# Altium footprint library SMD Active.PcbLib: 72 footprints (part 2 of 8)
Each footprint in its own frame and in the unit in brackets; x right, y up, seen from the top. Pads: shape width x height; smd on the part's side, far side on the other; paste and mask are expansions set on the pad; w line width, h text height; cw(c..) or ccw(c..) is an arc to the next point about the centre after c.
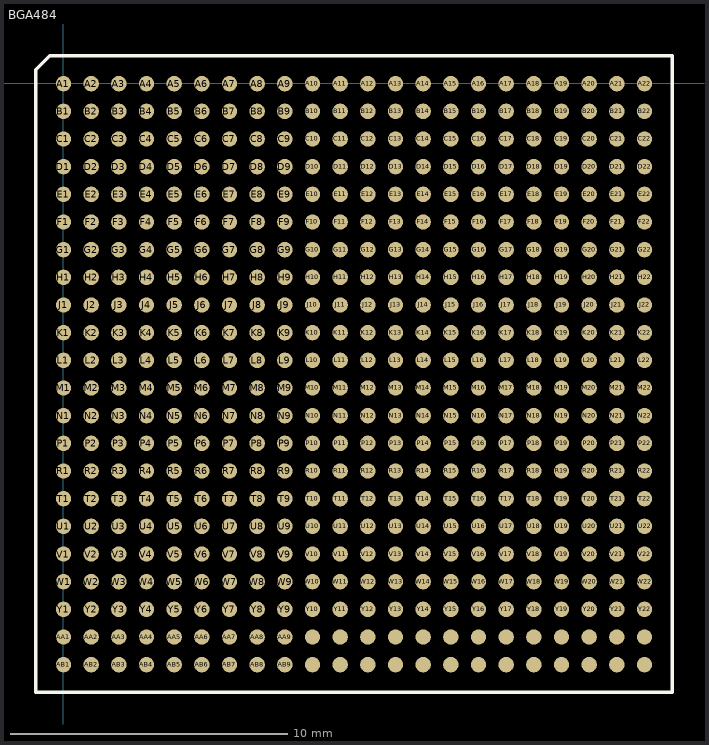
[diagram p1: the footprint, top view; thin cyan lines are the x and y axes]

## BGA484 [mil]
pads (484):
  round 22 smd: A1(0,-0.23) A2(39.37,-0.23) A3(78.74,-0.23) A4(118.11,-0.23) A5(157.48,-0.23) A6(196.85,-0.23) A7(236.22,-0.23) A8(275.59,-0.23) A9(314.96,-0.23) A10(354.33,-0.23) A11(393.7,-0.23) A12(433.07,-0.23) A13(472.44,-0.23) A14(511.81,-0.23) A15(551.18,-0.23) A16(590.55,-0.23) A17(629.92,-0.23) A18(669.29,-0.23) A19(708.66,-0.23) A20(748.03,-0.23) A21(787.4,-0.23) A22(826.77,-0.23) AA1(0,-787.63) AA2(39.37,-787.63) AA3(78.74,-787.63) AA4(118.11,-787.63) AA5(157.48,-787.63) AA6(196.85,-787.63) AA7(236.22,-787.63) AA8(275.59,-787.63) AA9(314.96,-787.63) AA10(354.33,-787.63) AA11(393.7,-787.63) AA12(433.07,-787.63) AA13(472.44,-787.63) AA14(511.81,-787.63) AA15(551.18,-787.63) AA16(590.55,-787.63) AA17(629.92,-787.63) AA18(669.29,-787.63) AA19(708.66,-787.63) AA20(748.03,-787.63) AA21(787.4,-787.63) AA22(826.77,-787.63) AB1(0,-827) AB2(39.37,-827) AB3(78.74,-827) AB4(118.11,-827) AB5(157.48,-827) AB6(196.85,-827) AB7(236.22,-827) AB8(275.59,-827) AB9(314.96,-827) AB10(354.33,-827) AB11(393.7,-827) AB12(433.07,-827) AB13(472.44,-827) AB14(511.81,-827) AB15(551.18,-827) AB16(590.55,-827) AB17(629.92,-827) AB18(669.29,-827) AB19(708.66,-827) AB20(748.03,-827) AB21(787.4,-827) AB22(826.77,-827) B1(0,-39.6) B2(39.37,-39.6) B3(78.74,-39.6) B4(118.11,-39.6) B5(157.48,-39.6) B6(196.85,-39.6) B7(236.22,-39.6) B8(275.59,-39.6) B9(314.96,-39.6) B10(354.33,-39.6) B11(393.7,-39.6) B12(433.07,-39.6) B13(472.44,-39.6) B14(511.81,-39.6) B15(551.18,-39.6) B16(590.55,-39.6) B17(629.92,-39.6) B18(669.29,-39.6) B19(708.66,-39.6) B20(748.03,-39.6) B21(787.4,-39.6) B22(826.77,-39.6) C1(0,-78.97) C2(39.37,-78.97) C3(78.74,-78.97) C4(118.11,-78.97) C5(157.48,-78.97) C6(196.85,-78.97) C7(236.22,-78.97) C8(275.59,-78.97) C9(314.96,-78.97) C10(354.33,-78.97) C11(393.7,-78.97) C12(433.07,-78.97) C13(472.44,-78.97) C14(511.81,-78.97) C15(551.18,-78.97) C16(590.55,-78.97) C17(629.92,-78.97) C18(669.29,-78.97) C19(708.66,-78.97) C20(748.03,-78.97) C21(787.4,-78.97) C22(826.77,-78.97) D1(0,-118.34) D2(39.37,-118.34) D3(78.74,-118.34) D4(118.11,-118.34) D5(157.48,-118.34) D6(196.85,-118.34) D7(236.22,-118.34) D8(275.59,-118.34) D9(314.96,-118.34) D10(354.33,-118.34) D11(393.7,-118.34) D12(433.07,-118.34) D13(472.44,-118.34) D14(511.81,-118.34) D15(551.18,-118.34) D16(590.55,-118.34) D17(629.92,-118.34) D18(669.29,-118.34) D19(708.66,-118.34) D20(748.03,-118.34) D21(787.4,-118.34) D22(826.77,-118.34) E1(0,-157.71) E2(39.37,-157.71) E3(78.74,-157.71) E4(118.11,-157.71) E5(157.48,-157.71) E6(196.85,-157.71) E7(236.22,-157.71) E8(275.59,-157.71) E9(314.96,-157.71) E10(354.33,-157.71) E11(393.7,-157.71) E12(433.07,-157.71) E13(472.44,-157.71) E14(511.81,-157.71) E15(551.18,-157.71) E16(590.55,-157.71) E17(629.92,-157.71) E18(669.29,-157.71) E19(708.66,-157.71) E20(748.03,-157.71) E21(787.4,-157.71) E22(826.77,-157.71) F1(0,-197.08) F2(39.37,-197.08) F3(78.74,-197.08) F4(118.11,-197.08) F5(157.48,-197.08) F6(196.85,-197.08) F7(236.22,-197.08) F8(275.59,-197.08) F9(314.96,-197.08) F10(354.33,-197.08) F11(393.7,-197.08) F12(433.07,-197.08) F13(472.44,-197.08) F14(511.81,-197.08) F15(551.18,-197.08) F16(590.55,-197.08) F17(629.92,-197.08) F18(669.29,-197.08) F19(708.66,-197.08) F20(748.03,-197.08) F21(787.4,-197.08) F22(826.77,-197.08) G1(0,-236.45) G2(39.37,-236.45) G3(78.74,-236.45) G4(118.11,-236.45) G5(157.48,-236.45) G6(196.85,-236.45) G7(236.22,-236.45) G8(275.59,-236.45) G9(314.96,-236.45) G10(354.33,-236.45) G11(393.7,-236.45) G12(433.07,-236.45) G13(472.44,-236.45) G14(511.81,-236.45) G15(551.18,-236.45) G16(590.55,-236.45) G17(629.92,-236.45) G18(669.29,-236.45) G19(708.66,-236.45) G20(748.03,-236.45) G21(787.4,-236.45) G22(826.77,-236.45) H1(0,-275.82) H2(39.37,-275.82) H3(78.74,-275.82) H4(118.11,-275.82) H5(157.48,-275.82) H6(196.85,-275.82) H7(236.22,-275.82) H8(275.59,-275.82) H9(314.96,-275.82) H10(354.33,-275.82) H11(393.7,-275.82) H12(433.07,-275.82) H13(472.44,-275.82) H14(511.81,-275.82) H15(551.18,-275.82) H16(590.55,-275.82) H17(629.92,-275.82) H18(669.29,-275.82) H19(708.66,-275.82) H20(748.03,-275.82) H21(787.4,-275.82) H22(826.77,-275.82) J1(0,-315.19) J2(39.37,-315.19) J3(78.74,-315.19) J4(118.11,-315.19) J5(157.48,-315.19) J6(196.85,-315.19) J7(236.22,-315.19) J8(275.59,-315.19) J9(314.96,-315.19) J10(354.33,-315.19) J11(393.7,-315.19) J12(433.07,-315.19) J13(472.44,-315.19) J14(511.81,-315.19) J15(551.18,-315.19) J16(590.55,-315.19) J17(629.92,-315.19) J18(669.29,-315.19) J19(708.66,-315.19) J20(748.03,-315.19) J21(787.4,-315.19) J22(826.77,-315.19) K1(0,-354.56) K2(39.37,-354.56) K3(78.74,-354.56) K4(118.11,-354.56) K5(157.48,-354.56) K6(196.85,-354.56) K7(236.22,-354.56) K8(275.59,-354.56) K9(314.96,-354.56) K10(354.33,-354.56) K11(393.7,-354.56) K12(433.07,-354.56) K13(472.44,-354.56) K14(511.81,-354.56) K15(551.18,-354.56) K16(590.55,-354.56) K17(629.92,-354.56) K18(669.29,-354.56) K19(708.66,-354.56) K20(748.03,-354.56) K21(787.4,-354.56) K22(826.77,-354.56) L1(0,-393.93) L2(39.37,-393.93) L3(78.74,-393.93) L4(118.11,-393.93) L5(157.48,-393.93) L6(196.85,-393.93) L7(236.22,-393.93) L8(275.59,-393.93) L9(314.96,-393.93) L10(354.33,-393.93) L11(393.7,-393.93) L12(433.07,-393.93) L13(472.44,-393.93) L14(511.81,-393.93) L15(551.18,-393.93) L16(590.55,-393.93) L17(629.92,-393.93) L18(669.29,-393.93) L19(708.66,-393.93) L20(748.03,-393.93) L21(787.4,-393.93) L22(826.77,-393.93) M1(0,-433.3) M2(39.37,-433.3) M3(78.74,-433.3) M4(118.11,-433.3) M5(157.48,-433.3) M6(196.85,-433.3) M7(236.22,-433.3) M8(275.59,-433.3) M9(314.96,-433.3) M10(354.33,-433.3) M11(393.7,-433.3) M12(433.07,-433.3) M13(472.44,-433.3) M14(511.81,-433.3) M15(551.18,-433.3) M16(590.55,-433.3) M17(629.92,-433.3) M18(669.29,-433.3) M19(708.66,-433.3) M20(748.03,-433.3) M21(787.4,-433.3) M22(826.77,-433.3) N1(0,-472.67) N2(39.37,-472.67) N3(78.74,-472.67) N4(118.11,-472.67) N5(157.48,-472.67) N6(196.85,-472.67) N7(236.22,-472.67) N8(275.59,-472.67) N9(314.96,-472.67) N10(354.33,-472.67) N11(393.7,-472.67) N12(433.07,-472.67) N13(472.44,-472.67) N14(511.81,-472.67) N15(551.18,-472.67) N16(590.55,-472.67) N17(629.92,-472.67) N18(669.29,-472.67) N19(708.66,-472.67) N20(748.03,-472.67) N21(787.4,-472.67) N22(826.77,-472.67) P1(0,-512.04) P2(39.37,-512.04) P3(78.74,-512.04) P4(118.11,-512.04) P5(157.48,-512.04) P6(196.85,-512.04) P7(236.22,-512.04) P8(275.59,-512.04) P9(314.96,-512.04) P10(354.33,-512.04) P11(393.7,-512.04) P12(433.07,-512.04) P13(472.44,-512.04) P14(511.81,-512.04) P15(551.18,-512.04) P16(590.55,-512.04) P17(629.92,-512.04) P18(669.29,-512.04) P19(708.66,-512.04) P20(748.03,-512.04) P21(787.4,-512.04) P22(826.77,-512.04) R1(0,-551.41) R2(39.37,-551.41) R3(78.74,-551.41) R4(118.11,-551.41) R5(157.48,-551.41) R6(196.85,-551.41) R7(236.22,-551.41) R8(275.59,-551.41) R9(314.96,-551.41) R10(354.33,-551.41) R11(393.7,-551.41) R12(433.07,-551.41) R13(472.44,-551.41) R14(511.81,-551.41) R15(551.18,-551.41) R16(590.55,-551.41) R17(629.92,-551.41) R18(669.29,-551.41) R19(708.66,-551.41) R20(748.03,-551.41) R21(787.4,-551.41) R22(826.77,-551.41) T1(0,-590.78) T2(39.37,-590.78) T3(78.74,-590.78) T4(118.11,-590.78) T5(157.48,-590.78) T6(196.85,-590.78) T7(236.22,-590.78) T8(275.59,-590.78) T9(314.96,-590.78) T10(354.33,-590.78) T11(393.7,-590.78) T12(433.07,-590.78) T13(472.44,-590.78) T14(511.81,-590.78) T15(551.18,-590.78) T16(590.55,-590.78) T17(629.92,-590.78) T18(669.29,-590.78) T19(708.66,-590.78) T20(748.03,-590.78) T21(787.4,-590.78) T22(826.77,-590.78) U1(0,-630.15) U2(39.37,-630.15) U3(78.74,-630.15) U4(118.11,-630.15) U5(157.48,-630.15) U6(196.85,-630.15) U7(236.22,-630.15) U8(275.59,-630.15) U9(314.96,-630.15) U10(354.33,-630.15) U11(393.7,-630.15) U12(433.07,-630.15) U13(472.44,-630.15) U14(511.81,-630.15) U15(551.18,-630.15) U16(590.55,-630.15) U17(629.92,-630.15) U18(669.29,-630.15) U19(708.66,-630.15) U20(748.03,-630.15) U21(787.4,-630.15) U22(826.77,-630.15) V1(0,-669.52) V2(39.37,-669.52) V3(78.74,-669.52) V4(118.11,-669.52) V5(157.48,-669.52) V6(196.85,-669.52) V7(236.22,-669.52) V8(275.59,-669.52) V9(314.96,-669.52) V10(354.33,-669.52) V11(393.7,-669.52) V12(433.07,-669.52) V13(472.44,-669.52) V14(511.81,-669.52) V15(551.18,-669.52) V16(590.55,-669.52) V17(629.92,-669.52) V18(669.29,-669.52) V19(708.66,-669.52) V20(748.03,-669.52) V21(787.4,-669.52) V22(826.77,-669.52) W1(0,-708.89) W2(39.37,-708.89) W3(78.74,-708.89) W4(118.11,-708.89) W5(157.48,-708.89) W6(196.85,-708.89) W7(236.22,-708.89) W8(275.59,-708.89) W9(314.96,-708.89) W10(354.33,-708.89) W11(393.7,-708.89) W12(433.07,-708.89) W13(472.44,-708.89) W14(511.81,-708.89) W15(551.18,-708.89) W16(590.55,-708.89) W17(629.92,-708.89) W18(669.29,-708.89) W19(708.66,-708.89) W20(748.03,-708.89) W21(787.4,-708.89) W22(826.77,-708.89) Y1(0,-748.26) Y2(39.37,-748.26) Y3(78.74,-748.26) Y4(118.11,-748.26) Y5(157.48,-748.26) Y6(196.85,-748.26) Y7(236.22,-748.26) Y8(275.59,-748.26) Y9(314.96,-748.26) Y10(354.33,-748.26) Y11(393.7,-748.26) Y12(433.07,-748.26) Y13(472.44,-748.26) Y14(511.81,-748.26) Y15(551.18,-748.26) Y16(590.55,-748.26) Y17(629.92,-748.26) Y18(669.29,-748.26) Y19(708.66,-748.26) Y20(748.03,-748.26) Y21(787.4,-748.26) Y22(826.77,-748.26)
Top Overlay:
  lines w5: -39.37,-866.14 866.14,-866.14 866.14,39.37 -19.68,39.37 -39.37,19.68 -39.37,-866.14
3D body: height 22, standoff -2, extent -12,-800 11.87,-776.1
3D body: height 22, standoff -2, extent 27,-800 50.87,-776.1
3D body: height 22, standoff -2, extent 67,-800 90.87,-776.1
3D body: height 22, standoff -2, extent 106,-800 129.87,-776.1
3D body: height 22, standoff -2, extent 106,-839 129.87,-815.1
3D body: height 22, standoff -2, extent 67,-839 90.87,-815.1
3D body: height 22, standoff -2, extent 27,-839 50.87,-815.1
3D body: height 22, standoff -2, extent -12,-839 11.87,-815.1
3D body: height 22, standoff -2, extent 146,-839 169.87,-815.1
3D body: height 22, standoff -2, extent 185,-839 208.87,-815.1
3D body: height 22, standoff -2, extent 225,-839 248.87,-815.1
3D body: height 22, standoff -2, extent 264,-839 287.87,-815.1
3D body: height 22, standoff -2, extent 264,-800 287.87,-776.1
3D body: height 22, standoff -2, extent 225,-800 248.87,-776.1
3D body: height 22, standoff -2, extent 185,-800 208.87,-776.1
3D body: height 22, standoff -2, extent 146,-800 169.87,-776.1
3D body: height 22, standoff -2, extent 302,-839 325.87,-815.1
3D body: height 22, standoff -2, extent 341,-839 364.87,-815.1
3D body: height 22, standoff -2, extent 381,-839 404.87,-815.1
3D body: height 22, standoff -2, extent 420,-839 443.87,-815.1
3D body: height 22, standoff -2, extent 420,-800 443.87,-776.1
3D body: height 22, standoff -2, extent 381,-800 404.87,-776.1
3D body: height 22, standoff -2, extent 341,-800 364.87,-776.1
3D body: height 22, standoff -2, extent 302,-800 325.87,-776.1
3D body: height 22, standoff -2, extent 460,-839 483.87,-815.1
3D body: height 22, standoff -2, extent 499,-839 522.87,-815.1
3D body: height 22, standoff -2, extent 539,-839 562.87,-815.1
3D body: height 22, standoff -2, extent 578,-839 601.87,-815.1
3D body: height 22, standoff -2, extent 578,-800 601.87,-776.1
3D body: height 22, standoff -2, extent 539,-800 562.87,-776.1
3D body: height 22, standoff -2, extent 499,-800 522.87,-776.1
3D body: height 22, standoff -2, extent 460,-800 483.87,-776.1
3D body: height 22, standoff -2, extent 617,-838 640.87,-814.1
3D body: height 22, standoff -2, extent 656,-838 679.87,-814.1
3D body: height 22, standoff -2, extent 696,-838 719.87,-814.1
3D body: height 22, standoff -2, extent 735,-838 758.87,-814.1
3D body: height 22, standoff -2, extent 735,-799 758.87,-775.1
3D body: height 22, standoff -2, extent 696,-799 719.87,-775.1
3D body: height 22, standoff -2, extent 656,-799 679.87,-775.1
3D body: height 22, standoff -2, extent 617,-799 640.87,-775.1
3D body: height 22, standoff -2, extent 776,-839 799.87,-815.1
3D body: height 22, standoff -2, extent 815,-839 838.87,-815.1
3D body: height 22, standoff -2, extent 815,-800 838.87,-776.1
3D body: height 22, standoff -2, extent 776,-800 799.87,-776.1
3D body: height 22, standoff -2, extent 776,-721 799.87,-697.1
3D body: height 22, standoff -2, extent 815,-721 838.87,-697.1
3D body: height 22, standoff -2, extent 815,-760 838.87,-736.1
3D body: height 22, standoff -2, extent 776,-760 799.87,-736.1
3D body: height 22, standoff -2, extent 617,-720 640.87,-696.1
3D body: height 22, standoff -2, extent 656,-720 679.87,-696.1
3D body: height 22, standoff -2, extent 696,-720 719.87,-696.1
3D body: height 22, standoff -2, extent 735,-720 758.87,-696.1
3D body: height 22, standoff -2, extent 735,-759 758.87,-735.1
3D body: height 22, standoff -2, extent 696,-759 719.87,-735.1
3D body: height 22, standoff -2, extent 656,-759 679.87,-735.1
3D body: height 22, standoff -2, extent 617,-759 640.87,-735.1
3D body: height 22, standoff -2, extent 460,-721 483.87,-697.1
3D body: height 22, standoff -2, extent 499,-721 522.87,-697.1
3D body: height 22, standoff -2, extent 539,-721 562.87,-697.1
3D body: height 22, standoff -2, extent 578,-721 601.87,-697.1
3D body: height 22, standoff -2, extent 578,-760 601.87,-736.1
3D body: height 22, standoff -2, extent 539,-760 562.87,-736.1
3D body: height 22, standoff -2, extent 499,-760 522.87,-736.1
3D body: height 22, standoff -2, extent 460,-760 483.87,-736.1
3D body: height 22, standoff -2, extent 302,-721 325.87,-697.1
3D body: height 22, standoff -2, extent 341,-721 364.87,-697.1
3D body: height 22, standoff -2, extent 381,-721 404.87,-697.1
3D body: height 22, standoff -2, extent 420,-721 443.87,-697.1
3D body: height 22, standoff -2, extent 420,-760 443.87,-736.1
3D body: height 22, standoff -2, extent 381,-760 404.87,-736.1
3D body: height 22, standoff -2, extent 341,-760 364.87,-736.1
3D body: height 22, standoff -2, extent 302,-760 325.87,-736.1
3D body: height 22, standoff -2, extent 146,-721 169.87,-697.1
3D body: height 22, standoff -2, extent 185,-721 208.87,-697.1
3D body: height 22, standoff -2, extent 225,-721 248.87,-697.1
3D body: height 22, standoff -2, extent 264,-721 287.87,-697.1
3D body: height 22, standoff -2, extent 264,-760 287.87,-736.1
3D body: height 22, standoff -2, extent 225,-760 248.87,-736.1
3D body: height 22, standoff -2, extent 185,-760 208.87,-736.1
3D body: height 22, standoff -2, extent 146,-760 169.87,-736.1
3D body: height 22, standoff -2, extent -12,-760 11.87,-736.1
3D body: height 22, standoff -2, extent 27,-760 50.87,-736.1
3D body: height 22, standoff -2, extent 67,-760 90.87,-736.1
3D body: height 22, standoff -2, extent 106,-760 129.87,-736.1
3D body: height 22, standoff -2, extent 106,-721 129.87,-697.1
3D body: height 22, standoff -2, extent 67,-721 90.87,-697.1
3D body: height 22, standoff -2, extent 27,-721 50.87,-697.1
3D body: height 22, standoff -2, extent -12,-721 11.87,-697.1
3D body: height 22, standoff -2, extent -12,-563 11.87,-539.1
3D body: height 22, standoff -2, extent 27,-563 50.87,-539.1
3D body: height 22, standoff -2, extent 67,-563 90.87,-539.1
3D body: height 22, standoff -2, extent 106,-563 129.87,-539.1
3D body: height 22, standoff -2, extent 106,-602 129.87,-578.1
3D body: height 22, standoff -2, extent 67,-602 90.87,-578.1
3D body: height 22, standoff -2, extent 27,-602 50.87,-578.1
3D body: height 22, standoff -2, extent -12,-602 11.87,-578.1
3D body: height 22, standoff -2, extent 146,-602 169.87,-578.1
3D body: height 22, standoff -2, extent 185,-602 208.87,-578.1
3D body: height 22, standoff -2, extent 225,-602 248.87,-578.1
3D body: height 22, standoff -2, extent 264,-602 287.87,-578.1
3D body: height 22, standoff -2, extent 264,-563 287.87,-539.1
3D body: height 22, standoff -2, extent 225,-563 248.87,-539.1
3D body: height 22, standoff -2, extent 185,-563 208.87,-539.1
3D body: height 22, standoff -2, extent 146,-563 169.87,-539.1
3D body: height 22, standoff -2, extent 302,-602 325.87,-578.1
3D body: height 22, standoff -2, extent 341,-602 364.87,-578.1
3D body: height 22, standoff -2, extent 381,-602 404.87,-578.1
3D body: height 22, standoff -2, extent 420,-602 443.87,-578.1
3D body: height 22, standoff -2, extent 420,-563 443.87,-539.1
3D body: height 22, standoff -2, extent 381,-563 404.87,-539.1
3D body: height 22, standoff -2, extent 341,-563 364.87,-539.1
3D body: height 22, standoff -2, extent 302,-563 325.87,-539.1
3D body: height 22, standoff -2, extent 460,-602 483.87,-578.1
3D body: height 22, standoff -2, extent 499,-602 522.87,-578.1
3D body: height 22, standoff -2, extent 539,-602 562.87,-578.1
3D body: height 22, standoff -2, extent 578,-602 601.87,-578.1
3D body: height 22, standoff -2, extent 578,-563 601.87,-539.1
3D body: height 22, standoff -2, extent 539,-563 562.87,-539.1
3D body: height 22, standoff -2, extent 499,-563 522.87,-539.1
3D body: height 22, standoff -2, extent 460,-563 483.87,-539.1
3D body: height 22, standoff -2, extent 617,-601 640.87,-577.1
3D body: height 22, standoff -2, extent 656,-601 679.87,-577.1
3D body: height 22, standoff -2, extent 696,-601 719.87,-577.1
3D body: height 22, standoff -2, extent 735,-601 758.87,-577.1
3D body: height 22, standoff -2, extent 735,-562 758.87,-538.1
3D body: height 22, standoff -2, extent 696,-562 719.87,-538.1
3D body: height 22, standoff -2, extent 656,-562 679.87,-538.1
3D body: height 22, standoff -2, extent 617,-562 640.87,-538.1
3D body: height 22, standoff -2, extent 776,-602 799.87,-578.1
3D body: height 22, standoff -2, extent 815,-602 838.87,-578.1
3D body: height 22, standoff -2, extent 815,-563 838.87,-539.1
3D body: height 22, standoff -2, extent 776,-563 799.87,-539.1
3D body: height 22, standoff -2, extent 776,-642 799.87,-618.1
3D body: height 22, standoff -2, extent 815,-642 838.87,-618.1
3D body: height 22, standoff -2, extent 815,-681 838.87,-657.1
3D body: height 22, standoff -2, extent 776,-681 799.87,-657.1
3D body: height 22, standoff -2, extent 617,-641 640.87,-617.1
3D body: height 22, standoff -2, extent 656,-641 679.87,-617.1
3D body: height 22, standoff -2, extent 696,-641 719.87,-617.1
3D body: height 22, standoff -2, extent 735,-641 758.87,-617.1
3D body: height 22, standoff -2, extent 735,-680 758.87,-656.1
3D body: height 22, standoff -2, extent 696,-680 719.87,-656.1
3D body: height 22, standoff -2, extent 656,-680 679.87,-656.1
3D body: height 22, standoff -2, extent 617,-680 640.87,-656.1
3D body: height 22, standoff -2, extent 460,-642 483.87,-618.1
3D body: height 22, standoff -2, extent 499,-642 522.87,-618.1
3D body: height 22, standoff -2, extent 539,-642 562.87,-618.1
3D body: height 22, standoff -2, extent 578,-642 601.87,-618.1
3D body: height 22, standoff -2, extent 578,-681 601.87,-657.1
3D body: height 22, standoff -2, extent 539,-681 562.87,-657.1
3D body: height 22, standoff -2, extent 499,-681 522.87,-657.1
3D body: height 22, standoff -2, extent 460,-681 483.87,-657.1
3D body: height 22, standoff -2, extent 302,-642 325.87,-618.1
3D body: height 22, standoff -2, extent 341,-642 364.87,-618.1
3D body: height 22, standoff -2, extent 381,-642 404.87,-618.1
3D body: height 22, standoff -2, extent 420,-642 443.87,-618.1
3D body: height 22, standoff -2, extent 420,-681 443.87,-657.1
3D body: height 22, standoff -2, extent 381,-681 404.87,-657.1
3D body: height 22, standoff -2, extent 341,-681 364.87,-657.1
3D body: height 22, standoff -2, extent 302,-681 325.87,-657.1
3D body: height 22, standoff -2, extent 146,-642 169.87,-618.1
3D body: height 22, standoff -2, extent 185,-642 208.87,-618.1
3D body: height 22, standoff -2, extent 225,-642 248.87,-618.1
3D body: height 22, standoff -2, extent 264,-642 287.87,-618.1
3D body: height 22, standoff -2, extent 264,-681 287.87,-657.1
3D body: height 22, standoff -2, extent 225,-681 248.87,-657.1
3D body: height 22, standoff -2, extent 185,-681 208.87,-657.1
3D body: height 22, standoff -2, extent 146,-681 169.87,-657.1
3D body: height 22, standoff -2, extent -12,-681 11.87,-657.1
3D body: height 22, standoff -2, extent 27,-681 50.87,-657.1
3D body: height 22, standoff -2, extent 67,-681 90.87,-657.1
3D body: height 22, standoff -2, extent 106,-681 129.87,-657.1
3D body: height 22, standoff -2, extent 106,-642 129.87,-618.1
3D body: height 22, standoff -2, extent 67,-642 90.87,-618.1
3D body: height 22, standoff -2, extent 27,-642 50.87,-618.1
3D body: height 22, standoff -2, extent -12,-642 11.87,-618.1
3D body: height 22, standoff -2, extent -12,-406 11.87,-382.1
3D body: height 22, standoff -2, extent 27,-406 50.87,-382.1
3D body: height 22, standoff -2, extent 67,-406 90.87,-382.1
3D body: height 22, standoff -2, extent 106,-406 129.87,-382.1
3D body: height 22, standoff -2, extent 106,-445 129.87,-421.1
3D body: height 22, standoff -2, extent 67,-445 90.87,-421.1
3D body: height 22, standoff -2, extent 27,-445 50.87,-421.1
3D body: height 22, standoff -2, extent -12,-445 11.87,-421.1
3D body: height 22, standoff -2, extent 146,-445 169.87,-421.1
3D body: height 22, standoff -2, extent 185,-445 208.87,-421.1
3D body: height 22, standoff -2, extent 225,-445 248.87,-421.1
3D body: height 22, standoff -2, extent 264,-445 287.87,-421.1
3D body: height 22, standoff -2, extent 264,-406 287.87,-382.1
3D body: height 22, standoff -2, extent 225,-406 248.87,-382.1
3D body: height 22, standoff -2, extent 185,-406 208.87,-382.1
3D body: height 22, standoff -2, extent 146,-406 169.87,-382.1
3D body: height 22, standoff -2, extent 302,-445 325.87,-421.1
3D body: height 22, standoff -2, extent 341,-445 364.87,-421.1
3D body: height 22, standoff -2, extent 381,-445 404.87,-421.1
3D body: height 22, standoff -2, extent 420,-445 443.87,-421.1
3D body: height 22, standoff -2, extent 420,-406 443.87,-382.1
3D body: height 22, standoff -2, extent 381,-406 404.87,-382.1
3D body: height 22, standoff -2, extent 341,-406 364.87,-382.1
3D body: height 22, standoff -2, extent 302,-406 325.87,-382.1
3D body: height 22, standoff -2, extent 460,-445 483.87,-421.1
3D body: height 22, standoff -2, extent 499,-445 522.87,-421.1
3D body: height 22, standoff -2, extent 539,-445 562.87,-421.1
3D body: height 22, standoff -2, extent 578,-445 601.87,-421.1
3D body: height 22, standoff -2, extent 578,-406 601.87,-382.1
3D body: height 22, standoff -2, extent 539,-406 562.87,-382.1
3D body: height 22, standoff -2, extent 499,-406 522.87,-382.1
3D body: height 22, standoff -2, extent 460,-406 483.87,-382.1
3D body: height 22, standoff -2, extent 617,-444 640.87,-420.1
3D body: height 22, standoff -2, extent 656,-444 679.87,-420.1
3D body: height 22, standoff -2, extent 696,-444 719.87,-420.1
3D body: height 22, standoff -2, extent 735,-444 758.87,-420.1
3D body: height 22, standoff -2, extent 735,-405 758.87,-381.1
3D body: height 22, standoff -2, extent 696,-405 719.87,-381.1
3D body: height 22, standoff -2, extent 656,-405 679.87,-381.1
3D body: height 22, standoff -2, extent 617,-405 640.87,-381.1
3D body: height 22, standoff -2, extent 776,-445 799.87,-421.1
3D body: height 22, standoff -2, extent 815,-445 838.87,-421.1
3D body: height 22, standoff -2, extent 815,-406 838.87,-382.1
3D body: height 22, standoff -2, extent 776,-406 799.87,-382.1
3D body: height 22, standoff -2, extent 776,-485 799.87,-461.1
3D body: height 22, standoff -2, extent 815,-485 838.87,-461.1
3D body: height 22, standoff -2, extent 815,-524 838.87,-500.1
3D body: height 22, standoff -2, extent 776,-524 799.87,-500.1
3D body: height 22, standoff -2, extent 617,-484 640.87,-460.1
3D body: height 22, standoff -2, extent 656,-484 679.87,-460.1
3D body: height 22, standoff -2, extent 696,-484 719.87,-460.1
3D body: height 22, standoff -2, extent 735,-484 758.87,-460.1
3D body: height 22, standoff -2, extent 735,-523 758.87,-499.1
3D body: height 22, standoff -2, extent 696,-523 719.87,-499.1
3D body: height 22, standoff -2, extent 656,-523 679.87,-499.1
3D body: height 22, standoff -2, extent 617,-523 640.87,-499.1
3D body: height 22, standoff -2, extent 460,-485 483.87,-461.1
3D body: height 22, standoff -2, extent 499,-485 522.87,-461.1
3D body: height 22, standoff -2, extent 539,-485 562.87,-461.1
3D body: height 22, standoff -2, extent 578,-485 601.87,-461.1
3D body: height 22, standoff -2, extent 578,-524 601.87,-500.1
3D body: height 22, standoff -2, extent 539,-524 562.87,-500.1
3D body: height 22, standoff -2, extent 499,-524 522.87,-500.1
3D body: height 22, standoff -2, extent 460,-524 483.87,-500.1
3D body: height 22, standoff -2, extent 302,-485 325.87,-461.1
3D body: height 22, standoff -2, extent 341,-485 364.87,-461.1
3D body: height 22, standoff -2, extent 381,-485 404.87,-461.1
3D body: height 22, standoff -2, extent 420,-485 443.87,-461.1
3D body: height 22, standoff -2, extent 420,-524 443.87,-500.1
3D body: height 22, standoff -2, extent 381,-524 404.87,-500.1
3D body: height 22, standoff -2, extent 341,-524 364.87,-500.1
3D body: height 22, standoff -2, extent 302,-524 325.87,-500.1
3D body: height 22, standoff -2, extent 146,-485 169.87,-461.1
3D body: height 22, standoff -2, extent 185,-485 208.87,-461.1
3D body: height 22, standoff -2, extent 225,-485 248.87,-461.1
3D body: height 22, standoff -2, extent 264,-485 287.87,-461.1
3D body: height 22, standoff -2, extent 264,-524 287.87,-500.1
3D body: height 22, standoff -2, extent 225,-524 248.87,-500.1
3D body: height 22, standoff -2, extent 185,-524 208.87,-500.1
3D body: height 22, standoff -2, extent 146,-524 169.87,-500.1
3D body: height 22, standoff -2, extent -12,-524 11.87,-500.1
3D body: height 22, standoff -2, extent 27,-524 50.87,-500.1
3D body: height 22, standoff -2, extent 67,-524 90.87,-500.1
3D body: height 22, standoff -2, extent 106,-524 129.87,-500.1
3D body: height 22, standoff -2, extent 106,-485 129.87,-461.1
3D body: height 22, standoff -2, extent 67,-485 90.87,-461.1
3D body: height 22, standoff -2, extent 27,-485 50.87,-461.1
3D body: height 22, standoff -2, extent -12,-485 11.87,-461.1
3D body: height 22, standoff -2, extent -12,-248 11.87,-224.1
3D body: height 22, standoff -2, extent 27,-248 50.87,-224.1
3D body: height 22, standoff -2, extent 67,-248 90.87,-224.1
3D body: height 22, standoff -2, extent 106,-248 129.87,-224.1
3D body: height 22, standoff -2, extent 106,-287 129.87,-263.1
3D body: height 22, standoff -2, extent 67,-287 90.87,-263.1
3D body: height 22, standoff -2, extent 27,-287 50.87,-263.1
3D body: height 22, standoff -2, extent -12,-287 11.87,-263.1
3D body: height 22, standoff -2, extent 146,-287 169.87,-263.1
3D body: height 22, standoff -2, extent 185,-287 208.87,-263.1
3D body: height 22, standoff -2, extent 225,-287 248.87,-263.1
3D body: height 22, standoff -2, extent 264,-287 287.87,-263.1
3D body: height 22, standoff -2, extent 264,-248 287.87,-224.1
3D body: height 22, standoff -2, extent 225,-248 248.87,-224.1
3D body: height 22, standoff -2, extent 185,-248 208.87,-224.1
3D body: height 22, standoff -2, extent 146,-248 169.87,-224.1
3D body: height 22, standoff -2, extent 302,-287 325.87,-263.1
3D body: height 22, standoff -2, extent 341,-287 364.87,-263.1
3D body: height 22, standoff -2, extent 381,-287 404.87,-263.1
3D body: height 22, standoff -2, extent 420,-287 443.87,-263.1
3D body: height 22, standoff -2, extent 420,-248 443.87,-224.1
3D body: height 22, standoff -2, extent 381,-248 404.87,-224.1
3D body: height 22, standoff -2, extent 341,-248 364.87,-224.1
3D body: height 22, standoff -2, extent 302,-248 325.87,-224.1
3D body: height 22, standoff -2, extent 460,-287 483.87,-263.1
3D body: height 22, standoff -2, extent 499,-287 522.87,-263.1
3D body: height 22, standoff -2, extent 539,-287 562.87,-263.1
3D body: height 22, standoff -2, extent 578,-287 601.87,-263.1
3D body: height 22, standoff -2, extent 578,-248 601.87,-224.1
3D body: height 22, standoff -2, extent 539,-248 562.87,-224.1
3D body: height 22, standoff -2, extent 499,-248 522.87,-224.1
3D body: height 22, standoff -2, extent 460,-248 483.87,-224.1
3D body: height 22, standoff -2, extent 617,-286 640.87,-262.1
3D body: height 22, standoff -2, extent 656,-286 679.87,-262.1
3D body: height 22, standoff -2, extent 696,-286 719.87,-262.1
3D body: height 22, standoff -2, extent 735,-286 758.87,-262.1
3D body: height 22, standoff -2, extent 735,-247 758.87,-223.1
3D body: height 22, standoff -2, extent 696,-247 719.87,-223.1
3D body: height 22, standoff -2, extent 656,-247 679.87,-223.1
3D body: height 22, standoff -2, extent 617,-247 640.87,-223.1
3D body: height 22, standoff -2, extent 776,-287 799.87,-263.1
3D body: height 22, standoff -2, extent 815,-287 838.87,-263.1
3D body: height 22, standoff -2, extent 815,-248 838.87,-224.1
3D body: height 22, standoff -2, extent 776,-248 799.87,-224.1
3D body: height 22, standoff -2, extent 776,-327 799.87,-303.1
3D body: height 22, standoff -2, extent 815,-327 838.87,-303.1
3D body: height 22, standoff -2, extent 815,-366 838.87,-342.1
3D body: height 22, standoff -2, extent 776,-366 799.87,-342.1
3D body: height 22, standoff -2, extent 617,-326 640.87,-302.1
3D body: height 22, standoff -2, extent 656,-326 679.87,-302.1
3D body: height 22, standoff -2, extent 696,-326 719.87,-302.1
3D body: height 22, standoff -2, extent 735,-326 758.87,-302.1
3D body: height 22, standoff -2, extent 735,-365 758.87,-341.1
3D body: height 22, standoff -2, extent 696,-365 719.87,-341.1
3D body: height 22, standoff -2, extent 656,-365 679.87,-341.1
3D body: height 22, standoff -2, extent 617,-365 640.87,-341.1
3D body: height 22, standoff -2, extent 460,-327 483.87,-303.1
3D body: height 22, standoff -2, extent 499,-327 522.87,-303.1
3D body: height 22, standoff -2, extent 539,-327 562.87,-303.1
3D body: height 22, standoff -2, extent 578,-327 601.87,-303.1
3D body: height 22, standoff -2, extent 578,-366 601.87,-342.1
3D body: height 22, standoff -2, extent 539,-366 562.87,-342.1
3D body: height 22, standoff -2, extent 499,-366 522.87,-342.1
3D body: height 22, standoff -2, extent 460,-366 483.87,-342.1
3D body: height 22, standoff -2, extent 302,-327 325.87,-303.1
3D body: height 22, standoff -2, extent 341,-327 364.87,-303.1
3D body: height 22, standoff -2, extent 381,-327 404.87,-303.1
3D body: height 22, standoff -2, extent 420,-327 443.87,-303.1
3D body: height 22, standoff -2, extent 420,-366 443.87,-342.1
3D body: height 22, standoff -2, extent 381,-366 404.87,-342.1
3D body: height 22, standoff -2, extent 341,-366 364.87,-342.1
3D body: height 22, standoff -2, extent 302,-366 325.87,-342.1
3D body: height 22, standoff -2, extent 146,-327 169.87,-303.1
3D body: height 22, standoff -2, extent 185,-327 208.87,-303.1
3D body: height 22, standoff -2, extent 225,-327 248.87,-303.1
3D body: height 22, standoff -2, extent 264,-327 287.87,-303.1
3D body: height 22, standoff -2, extent 264,-366 287.87,-342.1
3D body: height 22, standoff -2, extent 225,-366 248.87,-342.1
3D body: height 22, standoff -2, extent 185,-366 208.87,-342.1
3D body: height 22, standoff -2, extent 146,-366 169.87,-342.1
3D body: height 22, standoff -2, extent -12,-366 11.87,-342.1
3D body: height 22, standoff -2, extent 27,-366 50.87,-342.1
3D body: height 22, standoff -2, extent 67,-366 90.87,-342.1
3D body: height 22, standoff -2, extent 106,-366 129.87,-342.1
3D body: height 22, standoff -2, extent 106,-327 129.87,-303.1
3D body: height 22, standoff -2, extent 67,-327 90.87,-303.1
3D body: height 22, standoff -2, extent 27,-327 50.87,-303.1
3D body: height 22, standoff -2, extent -12,-327 11.87,-303.1
3D body: height 22, standoff -2, extent -12,-91 11.87,-67.1
3D body: height 22, standoff -2, extent 27,-91 50.87,-67.1
3D body: height 22, standoff -2, extent 67,-91 90.87,-67.1
3D body: height 22, standoff -2, extent 106,-91 129.87,-67.1
3D body: height 22, standoff -2, extent 106,-130 129.87,-106.1
3D body: height 22, standoff -2, extent 67,-130 90.87,-106.1
3D body: height 22, standoff -2, extent 27,-130 50.87,-106.1
3D body: height 22, standoff -2, extent -12,-130 11.87,-106.1
3D body: height 22, standoff -2, extent 146,-130 169.87,-106.1
3D body: height 22, standoff -2, extent 185,-130 208.87,-106.1
3D body: height 22, standoff -2, extent 225,-130 248.87,-106.1
3D body: height 22, standoff -2, extent 264,-130 287.87,-106.1
3D body: height 22, standoff -2, extent 264,-91 287.87,-67.1
3D body: height 22, standoff -2, extent 225,-91 248.87,-67.1
3D body: height 22, standoff -2, extent 185,-91 208.87,-67.1
3D body: height 22, standoff -2, extent 146,-91 169.87,-67.1
3D body: height 22, standoff -2, extent 302,-130 325.87,-106.1
3D body: height 22, standoff -2, extent 341,-130 364.87,-106.1
3D body: height 22, standoff -2, extent 381,-130 404.87,-106.1
3D body: height 22, standoff -2, extent 420,-130 443.87,-106.1
3D body: height 22, standoff -2, extent 420,-91 443.87,-67.1
3D body: height 22, standoff -2, extent 381,-91 404.87,-67.1
3D body: height 22, standoff -2, extent 341,-91 364.87,-67.1
3D body: height 22, standoff -2, extent 302,-91 325.87,-67.1
3D body: height 22, standoff -2, extent 460,-130 483.87,-106.1
3D body: height 22, standoff -2, extent 499,-130 522.87,-106.1
3D body: height 22, standoff -2, extent 539,-130 562.87,-106.1
3D body: height 22, standoff -2, extent 578,-130 601.87,-106.1
3D body: height 22, standoff -2, extent 578,-91 601.87,-67.1
3D body: height 22, standoff -2, extent 539,-91 562.87,-67.1
3D body: height 22, standoff -2, extent 499,-91 522.87,-67.1
3D body: height 22, standoff -2, extent 460,-91 483.87,-67.1
3D body: height 22, standoff -2, extent 617,-129 640.87,-105.1
3D body: height 22, standoff -2, extent 656,-129 679.87,-105.1
3D body: height 22, standoff -2, extent 696,-129 719.87,-105.1
3D body: height 22, standoff -2, extent 735,-129 758.87,-105.1
3D body: height 22, standoff -2, extent 735,-90 758.87,-66.1
3D body: height 22, standoff -2, extent 696,-90 719.87,-66.1
3D body: height 22, standoff -2, extent 656,-90 679.87,-66.1
3D body: height 22, standoff -2, extent 617,-90 640.87,-66.1
3D body: height 22, standoff -2, extent 776,-130 799.87,-106.1
3D body: height 22, standoff -2, extent 815,-130 838.87,-106.1
3D body: height 22, standoff -2, extent 815,-91 838.87,-67.1
3D body: height 22, standoff -2, extent 776,-91 799.87,-67.1
3D body: height 22, standoff -2, extent 776,-170 799.87,-146.1
3D body: height 22, standoff -2, extent 815,-170 838.87,-146.1
3D body: height 22, standoff -2, extent 815,-209 838.87,-185.1
3D body: height 22, standoff -2, extent 776,-209 799.87,-185.1
3D body: height 22, standoff -2, extent 617,-169 640.87,-145.1
3D body: height 22, standoff -2, extent 656,-169 679.87,-145.1
3D body: height 22, standoff -2, extent 696,-169 719.87,-145.1
3D body: height 22, standoff -2, extent 735,-169 758.87,-145.1
3D body: height 22, standoff -2, extent 735,-208 758.87,-184.1
3D body: height 22, standoff -2, extent 696,-208 719.87,-184.1
3D body: height 22, standoff -2, extent 656,-208 679.87,-184.1
3D body: height 22, standoff -2, extent 617,-208 640.87,-184.1
3D body: height 22, standoff -2, extent 460,-170 483.87,-146.1
3D body: height 22, standoff -2, extent 499,-170 522.87,-146.1
3D body: height 22, standoff -2, extent 539,-170 562.87,-146.1
3D body: height 22, standoff -2, extent 578,-170 601.87,-146.1
3D body: height 22, standoff -2, extent 578,-209 601.87,-185.1
3D body: height 22, standoff -2, extent 539,-209 562.87,-185.1
3D body: height 22, standoff -2, extent 499,-209 522.87,-185.1
3D body: height 22, standoff -2, extent 460,-209 483.87,-185.1
3D body: height 22, standoff -2, extent 302,-170 325.87,-146.1
3D body: height 22, standoff -2, extent 341,-170 364.87,-146.1
3D body: height 22, standoff -2, extent 381,-170 404.87,-146.1
3D body: height 22, standoff -2, extent 420,-170 443.87,-146.1
3D body: height 22, standoff -2, extent 420,-209 443.87,-185.1
3D body: height 22, standoff -2, extent 381,-209 404.87,-185.1
3D body: height 22, standoff -2, extent 341,-209 364.87,-185.1
3D body: height 22, standoff -2, extent 302,-209 325.87,-185.1
3D body: height 22, standoff -2, extent 146,-170 169.87,-146.1
3D body: height 22, standoff -2, extent 185,-170 208.87,-146.1
3D body: height 22, standoff -2, extent 225,-170 248.87,-146.1
3D body: height 22, standoff -2, extent 264,-170 287.87,-146.1
3D body: height 22, standoff -2, extent 264,-209 287.87,-185.1
3D body: height 22, standoff -2, extent 225,-209 248.87,-185.1
3D body: height 22, standoff -2, extent 185,-209 208.87,-185.1
3D body: height 22, standoff -2, extent 146,-209 169.87,-185.1
3D body: height 22, standoff -2, extent -12,-209 11.87,-185.1
3D body: height 22, standoff -2, extent 27,-209 50.87,-185.1
3D body: height 22, standoff -2, extent 67,-209 90.87,-185.1
3D body: height 22, standoff -2, extent 106,-209 129.87,-185.1
3D body: height 22, standoff -2, extent 106,-170 129.87,-146.1
3D body: height 22, standoff -2, extent 67,-170 90.87,-146.1
3D body: height 22, standoff -2, extent 27,-170 50.87,-146.1
3D body: height 22, standoff -2, extent -12,-170 11.87,-146.1
3D body: height 22, standoff -2, extent 777,-13 800.87,10.9
3D body: height 22, standoff -2, extent 816,-13 839.87,10.9
3D body: height 22, standoff -2, extent 816,-52 839.87,-28.1
3D body: height 22, standoff -2, extent 777,-52 800.87,-28.1
3D body: height 22, standoff -2, extent 618,-12 641.87,11.9
3D body: height 22, standoff -2, extent 657,-12 680.87,11.9
3D body: height 22, standoff -2, extent 697,-12 720.87,11.9
3D body: height 22, standoff -2, extent 736,-12 759.87,11.9
3D body: height 22, standoff -2, extent 736,-51 759.87,-27.1
3D body: height 22, standoff -2, extent 697,-51 720.87,-27.1
3D body: height 22, standoff -2, extent 657,-51 680.87,-27.1
3D body: height 22, standoff -2, extent 618,-51 641.87,-27.1
3D body: height 22, standoff -2, extent 461,-13 484.87,10.9
3D body: height 22, standoff -2, extent 500,-13 523.87,10.9
3D body: height 22, standoff -2, extent 540,-13 563.87,10.9
3D body: height 22, standoff -2, extent 579,-13 602.87,10.9
3D body: height 22, standoff -2, extent 579,-52 602.87,-28.1
3D body: height 22, standoff -2, extent 540,-52 563.87,-28.1
3D body: height 22, standoff -2, extent 500,-52 523.87,-28.1
3D body: height 22, standoff -2, extent 461,-52 484.87,-28.1
3D body: height 22, standoff -2, extent 303,-13 326.87,10.9
3D body: height 22, standoff -2, extent 342,-13 365.87,10.9
3D body: height 22, standoff -2, extent 382,-13 405.87,10.9
3D body: height 22, standoff -2, extent 421,-13 444.87,10.9
3D body: height 22, standoff -2, extent 421,-52 444.87,-28.1
3D body: height 22, standoff -2, extent 382,-52 405.87,-28.1
3D body: height 22, standoff -2, extent 342,-52 365.87,-28.1
3D body: height 22, standoff -2, extent 303,-52 326.87,-28.1
3D body: height 22, standoff -2, extent 147,-13 170.87,10.9
3D body: height 22, standoff -2, extent 186,-13 209.87,10.9
3D body: height 22, standoff -2, extent 226,-13 249.87,10.9
3D body: height 22, standoff -2, extent 265,-13 288.87,10.9
3D body: height 22, standoff -2, extent 265,-52 288.87,-28.1
3D body: height 22, standoff -2, extent 226,-52 249.87,-28.1
3D body: height 22, standoff -2, extent 186,-52 209.87,-28.1
3D body: height 22, standoff -2, extent 147,-52 170.87,-28.1
3D body: height 22, standoff -2, extent -11,-52 12.87,-28.1
3D body: height 22, standoff -2, extent 28,-52 51.87,-28.1
3D body: height 22, standoff -2, extent 68,-52 91.87,-28.1
3D body: height 22, standoff -2, extent 107,-52 130.87,-28.1
3D body: height 22, standoff -2, extent 107,-13 130.87,10.9
3D body: height 22, standoff -2, extent 68,-13 91.87,10.9
3D body: height 22, standoff -2, extent 28,-13 51.87,10.9
3D body: height 22, standoff -2, extent -11,-13 12.87,10.9
3D body: height 30, standoff 16, extent -40,-867 867,40
3D body: height 45, standoff 30, extent 0,-828 826.94,-1.05
3D body: height 31, standoff 30, extent -40,-40 40,40